# EAGLE library part IDG300 (library SparkFunEagle-6-6-07)
IDG300 This is a dual axis MEMs based gyroscope sensor from Invensense. The only gyro in currently available with two axis on one chip. Works very well. Schematic and footprint are not yet production proven. Spark Fun Electronics SKU : COM-00700
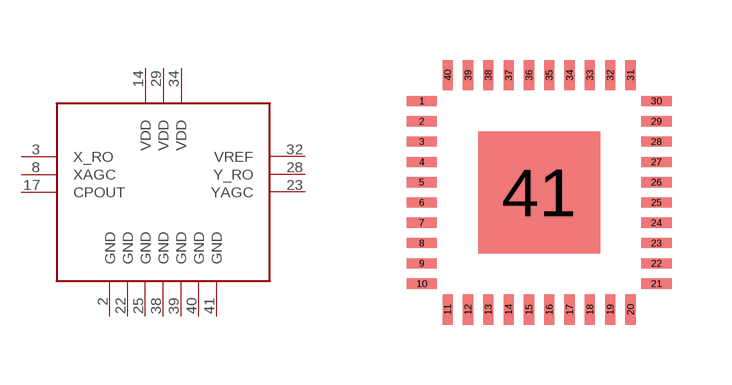
[diagram p62: symbol with the pads of IDG300; footprint IDG300]

Designator prefix -

## IDG300  [IDG300]
2  GND
3  X_RO
8  XAGC
14  VDD
17  CPOUT
22  GND
23  YAGC
25  GND
28  Y_RO
29  VDD
32  VREF
34  VDD
38  GND
39  GND
40  GND
41  GND

## Footprint IDG300 (pad centres in mm)
smd 0.762 x 0.254: 1 -0.102,0; 2 -0.102,-0.508; 3 -0.102,-1.016; 4 -0.102,-1.524; 5 -0.102,-2.032; 6 -0.102,-2.54; 7 -0.102,-3.048; 8 -0.102,-3.556; 9 -0.102,-4.064; 10 -0.102,-4.572; 21 5.766,-4.572; 22 5.766,-4.064; 23 5.766,-3.556; 24 5.766,-3.048; 25 5.766,-2.54; 26 5.766,-2.032; 27 5.766,-1.524; 28 5.766,-1.016; 29 5.766,-0.508; 30 5.766,0
smd 0.254 x 0.762: 11 0.546,-5.22; 12 1.054,-5.22; 13 1.562,-5.22; 14 2.07,-5.22; 15 2.578,-5.22; 16 3.086,-5.22; 17 3.594,-5.22; 18 4.102,-5.22; 19 4.61,-5.22; 20 5.118,-5.22; 31 5.118,0.648; 32 4.61,0.648; 33 4.102,0.648; 34 3.594,0.648; 35 3.086,0.648; 36 2.578,0.648; 37 2.07,0.648; 38 1.562,0.648; 39 1.054,0.648; 40 0.546,0.648
smd 3.048 x 3.048: 41 2.832,-2.286